# EAGLE library part WE-RJ45_7499021002A (library WE-RJ45_LAN)
WE-RJ45 LAN Transformer Characteristics RJ45 Connector with integrated transformer / common mode choke Power over Ethernet up to 50 Watt and speeds up to 10 Gbit/s Available in SMD, THT and THT with USB Compliant with standards: IEEE 802.3u, IEEE 802.3ab, IEEE 802.3af, IEEE 802.3at, IEEE 802.3an and upcoming IEE 802.3bt Applications Suitable for industrial temperatures from –40 °C up to +85 °C Compatible to Industrial Ethernet systems like EtherCAT or Profinet Compliant with most IC’s for Ethernet applications such as Microchip, Texas Instruments, Broadcom, Linear Technology Hubs, Routers, Switches, IP cameras, IoT applications <https://www.we-online.com/components/media/o35731v209%20Family-WE-RJ45LAN-7499xxxxxx.jpg> Details see: www.we-online.com/components/products/WE-LAN-RJ45 <www.we-online.com/catalog/WE-LAN-RJ45/?utm_source=eagle_model&utm_medium=description_link&utm_campaign=eisos_eagle> Updated by Ella Wu 2019-08-05 2019 (C) Wurth Elektronik
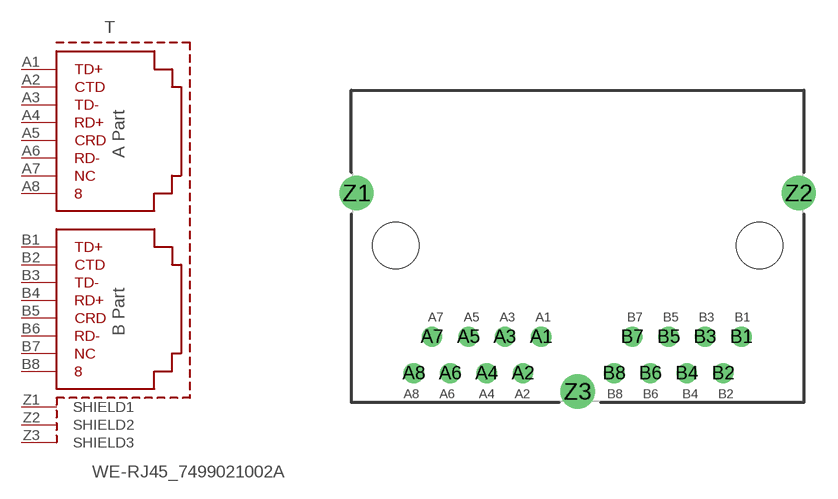
[diagram p42: symbol with the pads of 7499021002A; footprint 7499021002A]

Designator prefix T

## WE-RJ45_7499021002A (DATA-RATE: 10/100BASE-T; DATASHEET-URL: https://www.we-online.com/redexpert/spec/7499021002A?ae; IMPROVED-CMRR: No; LED: -; MOUNT: THT; OPERATING-TEMPERATURE: -40 °C up to +85 °C; PART-NUMBER: 7499021002A; PHY-CHIP-MODE: current & voltage; POE: non-PoE; PORTS: 1x2; SHIELD-TABS: Yes; TAB: Down; USB: No; VALUE: 7499021002A)  [7499021002A]
A1  A1  pas
A2  A2  pas
A3  A3  pas
A4  A4  pas
A5  A5  pas
A6  A6  pas
A7  A7  pas
A8  A8  pas
B1  B1  pas
B2  B2  pas
B3  B3  pas
B4  B4  pas
B5  B5  pas
B6  B6  pas
B7  B7  pas
B8  B8  pas
Z1  SHIELD1  pas
Z2  SHIELD2  pas
Z3  SHIELD3  pas

## Footprint 7499021002A (pad centres in mm)
WE-RJ45 LAN Transformer 10/100 Base-T
drill 0.9: A1 -2.54,-6.35; A2 -3.81,-8.89; A3 -5.08,-6.35; A4 -6.35,-8.89; A5 -7.62,-6.35; A6 -8.89,-8.89; A7 -10.16,-6.35; A8 -11.43,-8.89; B1 11.43,-6.35; B2 10.16,-8.89; B3 8.89,-6.35; B4 7.62,-8.89; B5 6.35,-6.35; B6 5.08,-8.89; B7 3.81,-6.35; B8 2.54,-8.89
drill 1.6: Z1 -15.43,3.68; Z2 15.43,3.68; Z3 0,-10.16
hole 3.25 at -12.7,0
hole 3.25 at 12.7,0